# EAGLE library part HIH-6130-6131 (library SM-Sensor)
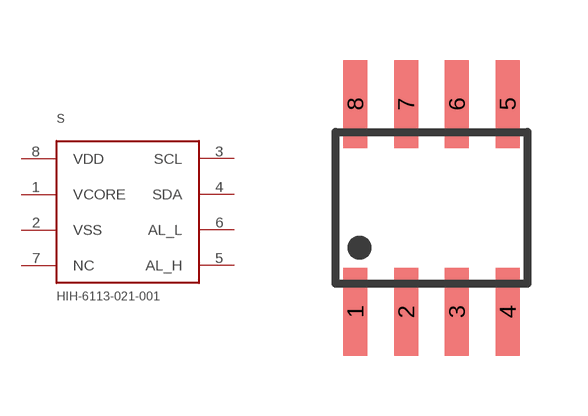
[diagram p1: symbol with the pads of SOIC8; footprint SOIC8]

Designator prefix S

## HIH-6130-6131  [SOIC8]
1  VCORE
2  VSS
3  SCL
4  SDA
5  AL_H
6  AL_L
7  NC
8  VDD

## Footprint SOIC8 (pad centres in mm)
Small Outline IC
smd 0.6 x 2.2: 1 -1.905,-2.6; 2 -0.635,-2.6; 3 0.635,-2.6; 4 1.905,-2.6; 5 1.905,2.6; 6 0.635,2.6; 7 -0.635,2.6; 8 -1.905,2.6